# EAGLE library part SUPERSEAL1.0_60POS (library TE)
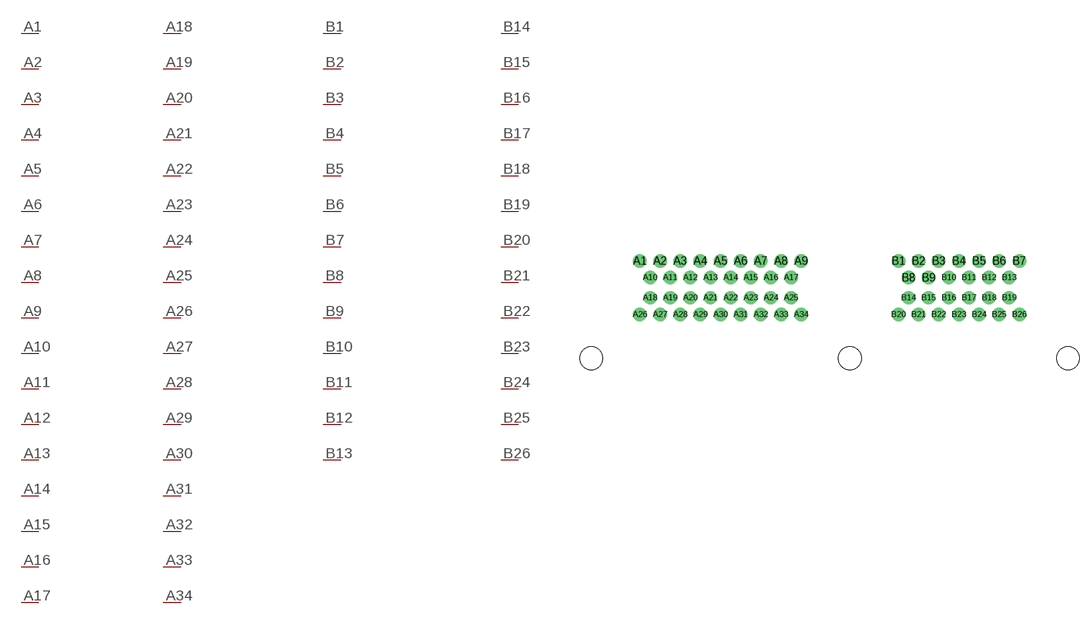
[diagram p0: symbol with the pads of SUPERSEAL1.0_60POS; footprint SUPERSEAL1.0_60POS]

Designator prefix -

## SUPERSEAL1.0_60POS  [SUPERSEAL1.0_60POS]
A1  A1
A2  A2
A3  A3
A4  A4
A5  A5
A6  A6
A7  A7
A8  A8
A9  A9
A10  A10
A11  A11
A12  A12
A13  A13
A14  A14
A15  A15
A16  A16
A17  A17
A18  A18
A19  A19
A20  A20
A21  A21
A22  A22
A23  A23
A24  A24
A25  A25
A26  A26
A27  A27
A28  A28
A29  A29
A30  A30
A31  A31
A32  A32
A33  A33
A34  A34
B1  B1
B2  B2
B3  B3
B4  B4
B5  B5
B6  B6
B7  B7
B8  B8
B9  B9
B10  B10
B11  B11
B12  B12
B13  B13
B14  B14
B15  B15
B16  B16
B17  B17
B18  B18
B19  B19
B20  B20
B21  B21
B22  B22
B23  B23
B24  B24
B25  B25
B26  B26

## Footprint SUPERSEAL1.0_60POS (pad centres in mm)
drill 1.3 pad 2: A1 7.288,14.526; A2 10.288,14.526; A3 13.288,14.526; A4 16.288,14.526; A5 19.288,14.526; A6 22.288,14.526; A7 25.288,14.526; A8 28.288,14.526; A9 31.288,14.526; A10 8.788,12.026; A11 11.788,12.026; A12 14.788,12.026; A13 17.788,12.026; A14 20.788,12.026; A15 23.788,12.026; A16 26.788,12.026; A17 29.788,12.026; A18 8.788,9.026; A19 11.788,9.026; A20 14.788,9.026; A21 17.788,9.026; A22 20.788,9.026; A23 23.788,9.026; A24 26.788,9.026; A25 29.788,9.026; A26 7.288,6.526; A27 10.288,6.526; A28 13.288,6.526; A29 16.288,6.526; A30 19.288,6.526; A31 22.288,6.526; A32 25.288,6.526; A33 28.288,6.526; A34 31.288,6.526; B1 45.788,14.526; B2 48.788,14.526; B3 51.788,14.526; B4 54.788,14.526; B5 57.788,14.526; B6 60.788,14.526; B7 63.788,14.526; B8 47.288,12.026; B9 50.288,12.026; B10 53.288,12.026; B11 56.288,12.026; B12 59.288,12.026; B13 62.288,12.026; B14 47.288,9.026; B15 50.288,9.026; B16 53.288,9.026; B17 56.288,9.026; B18 59.288,9.026; B19 62.288,9.026; B20 45.788,6.526; B21 48.788,6.526; B22 51.788,6.526; B23 54.788,6.526; B24 57.788,6.526; B25 60.788,6.526; B26 63.788,6.526
hole 3.4 at 0.038,0.026
hole 3.4 at 38.538,0.026
hole 3.4 at 71.038,0.026